# EAGLE library part LTC3605 (library Strutz Electronic Industries)
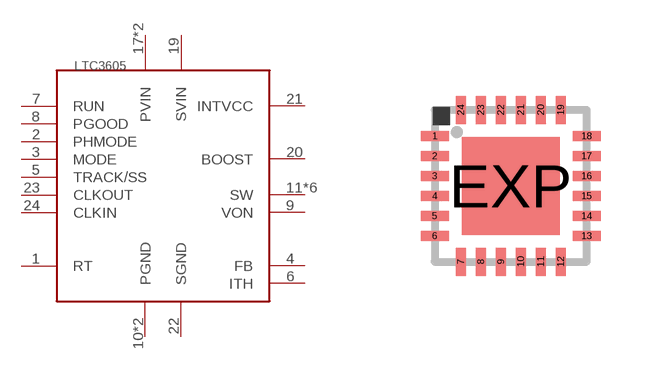
[diagram p12: symbol with the pads of QFN24; footprint QFN24]

Designator prefix -

## LTC3605  [QFN24]
1  RT
2  PHMODE
3  MODE
4  FB
5  TRACK/SS
6  ITH
7  RUN
8  PGOOD
9  VON
10  PGND
11  SW
12  SW
13  SW
14  SW
15  SW
16  SW
17  PVIN
18  PVIN
19  SVIN
20  BOOST
21  INTVCC
22  SGND
23  CLKOUT
24  CLKIN
EXP  PGND

## Footprint QFN24 (pad centres in mm)
smd 0.7 x 0.25: 1 -1.9,1.25; 2 -1.9,0.75; 3 -1.9,0.25; 4 -1.9,-0.25; 5 -1.9,-0.75; 6 -1.9,-1.25; 13 1.9,-1.25; 14 1.9,-0.75; 15 1.9,-0.25; 16 1.9,0.25; 17 1.9,0.75; 18 1.9,1.25
smd 0.25 x 0.7: 7 -1.25,-1.9; 8 -0.75,-1.9; 9 -0.25,-1.9; 10 0.25,-1.9; 11 0.75,-1.9; 12 1.25,-1.9; 19 1.25,1.9; 20 0.75,1.9; 21 0.25,1.9; 22 -0.25,1.9; 23 -0.75,1.9; 24 -1.25,1.9
smd 2.45 x 2.45: EXP 0,0